# Altium schematic symbol library SER1360.SchLib: 1 symbol
Pins are listed as number, name and electrical type; pins without a type are passive.

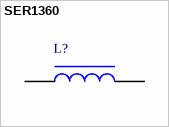
[diagram p0: symbol SER1360]

## SER1360
designator L?
Shielded Power Inductor
footprint SER1360
pins: 1, 2